# EAGLE library part ATTINY45-20PU (library rgb_led_attiny)
8-bit Microcontroller with 2/4/8KBytes In-System Programmable Flash Source: Datasheet <http://componentsearchengine.com/Datasheets/3/ATTINY45-20PU.pdf>
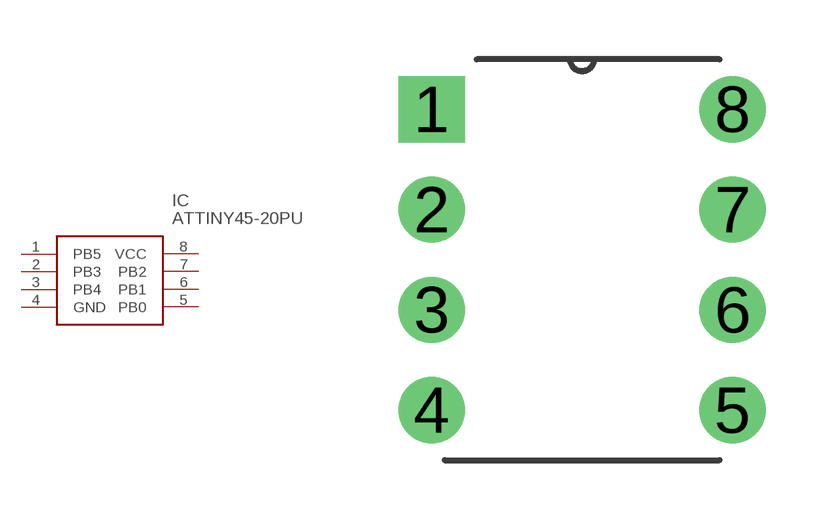
[diagram p0: symbol with the pads of DIP254P762X533-8; footprint DIP254P762X533-8]

Designator prefix IC

## ATTINY45-20PU (Description: 8-bit Microcontroller with 2/4/8KBytes In-System Programmable Flash; Height: mm; Manufacturer_Name: Microchip; Manufacturer_Part_Number: ATTINY45-20PU; Mouser_Part_Number: 556-ATTINY45-20PU; Mouser_Price-Stock: https://www.mouser.com/Search/Refine.aspx?Keyword=556-ATTINY45-20PU; RS_Part_Number: 1331643P; RS_Price-Stock: http://uk.rs-online.com/web/p/products/1331643P)  [DIP254P762X533-8]
1  PB5
2  PB3
3  PB4
4  GND
5  PB0
6  PB1
7  PB2
8  VCC

## Footprint DIP254P762X533-8 (pad centres in mm)
DIP254P762X533-8-ren1
drill 1.118 pad 1.676 square: 1 -7.62,7.62
drill 1.118 pad 1.676: 2 -7.62,5.08; 3 -7.62,2.54; 4 -7.62,0; 5 0,0; 6 0,2.54; 7 0,5.08; 8 0,7.62